# EAGLE library part TPA4861D-AUDIO-AMP (library adam - ics)
TPA4861D 1W Mono Audio Power Amp
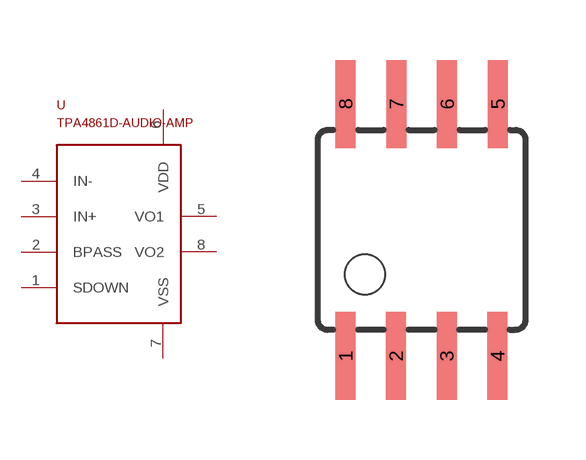
[diagram p4: symbol with the pads of SOIC8; footprint SOIC8]

Designator prefix -

## TPA4861D-AUDIO-AMP  [SOIC8]
1  SDOWN
2  BPASS
3  IN+
4  IN-
5  VO1
6  VDD
7  VSS
8  VO2

## Footprint SOIC8 (pad centres in mm)
Wide Plastic Gull Wing Small Outline Package
smd 0.5 x 2.2: 1 -1.905,-3.154; 2 -0.645,-3.154; 3 0.625,-3.154; 4 1.895,-3.154; 5 1.905,3.154; 6 0.635,3.154; 7 -0.635,3.154; 8 -1.905,3.154